# Altium footprint library PCB.PcbLib: 23 footprints (part 2 of 2)
Each footprint in its own frame and in the unit in brackets; x right, y up, seen from the top. Pads: shape width x height; smd on the part's side, far side on the other; paste and mask are expansions set on the pad; w line width, h text height; cw(c..) or ccw(c..) is an arc to the next point about the centre after c.
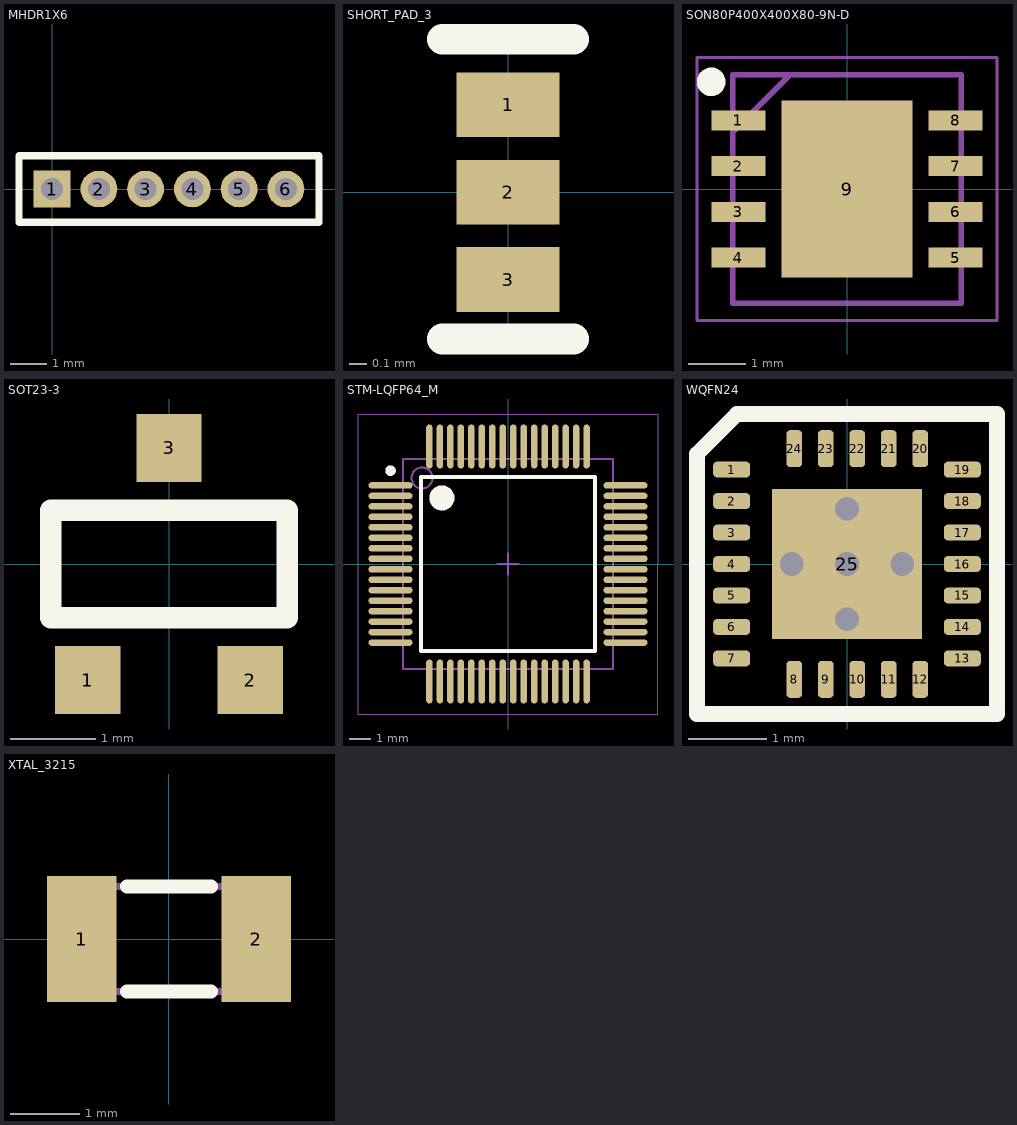
[diagram p1: the footprints below, top view; thin cyan lines are the x and y axes]

## MHDR1X6 [mm]
pads (6):
  rect 1x1 hole 0.6: 1(0,0)
  round 1 hole 0.6: 2(1.27,0) 3(2.54,0) 4(3.81,0) 5(5.08,0) 6(6.35,0)
Top Overlay:
  lines w0.2: -0.9,-0.9 7.25,-0.9 7.25,0.9 -0.9,0.9 -0.9,-0.9

## SHORT_PAD_3 [mm]
pads (3):
  rect 0.6x0.375 smd mask+0: 1(0,0.508) 2(0,0)
  rect 0.6x0.377 smd mask+0: 3(0,-0.508)
Top Overlay:
  lines w0.178: -0.381,-0.853 0.381,-0.853 ; -0.381,0.889 0.381,0.889

## SON80P400X400X80-9N-D [mm]
pads (9):
  rect 0.95x0.35 smd: 1(-1.9,1.2) 2(-1.9,0.4) 3(-1.9,-0.4) 4(-1.9,-1.2) 5(1.9,-1.2) 6(1.9,-0.4) 7(1.9,0.4) 8(1.9,1.2)
  rect 2.3x3.1 smd: 9(0,0)
Top Overlay:
  circle w0.25: c-2.375,1.875 r0.125
Mechanical 13:
  lines w0.1: -2,1 -1,2 ; -2,-2 -2,2 2,2 2,-2 -2,-2
Mechanical 15:
  lines w0.05: -2.625,-2.3 -2.625,2.3 2.625,2.3 2.625,-2.3 -2.625,-2.3
3D body "TLV1117-33IDRJRG4.stp": height 0.8, standoff 0, extent -2.05,-2 2.05,2

## SOT23-3 [mm]
pads (3):
  rect 0.77x0.8 smd: 1(-0.96,-1.37) 2(0.96,-1.37) 3(0,1.37)
Top Overlay:
  lines w0.254: -1.397,-0.635 -1.397,0.635 1.397,0.635 1.397,-0.635 -1.397,-0.635
3D body: height 1, standoff 0, extent -1.397,-0.635 1.397,0.635
3D body: height 0.25, standoff 0, extent -0.381,0.635 0.381,1.397
3D body: height 0.25, standoff 0, extent -1.27,-1.524 -0.635,-0.635
3D body: height 0.25, standoff 0, extent 0.635,-1.524 1.27,-0.635

## STM-LQFP64_M [mm]
pads (64):
  oval 2.1x0.3 smd: 1(-5.6,3.75) 2(-5.6,3.25) 3(-5.6,2.75) 4(-5.6,2.25) 5(-5.6,1.75) 6(-5.6,1.25) 7(-5.6,0.75) 8(-5.6,0.25) 9(-5.6,-0.25) 10(-5.6,-0.75) 11(-5.6,-1.25) 12(-5.6,-1.75) 13(-5.6,-2.25) 14(-5.6,-2.75) 15(-5.6,-3.25) 16(-5.6,-3.75) 33(5.6,-3.75) 34(5.6,-3.25) 35(5.6,-2.75) 36(5.6,-2.25) 37(5.6,-1.75) 38(5.6,-1.25) 39(5.6,-0.75) 40(5.6,-0.25) 41(5.6,0.25) 42(5.6,0.75) 43(5.6,1.25) 44(5.6,1.75) 45(5.6,2.25) 46(5.6,2.75) 47(5.6,3.25) 48(5.6,3.75)
  oval 0.3x2.1 smd: 17(-3.75,-5.6) 18(-3.25,-5.6) 19(-2.75,-5.6) 20(-2.25,-5.6) 21(-1.75,-5.6) 22(-1.25,-5.6) 23(-0.75,-5.6) 24(-0.25,-5.6) 25(0.25,-5.6) 26(0.75,-5.6) 27(1.25,-5.6) 28(1.75,-5.6) 29(2.25,-5.6) 30(2.75,-5.6) 31(3.25,-5.6) 32(3.75,-5.6) 49(3.75,5.6) 50(3.25,5.6) 51(2.75,5.6) 52(2.25,5.6) 53(1.75,5.6) 54(1.25,5.6) 55(0.75,5.6) 56(0.25,5.6) 57(-0.25,5.6) 58(-0.75,5.6) 59(-1.25,5.6) 60(-1.75,5.6) 61(-2.25,5.6) 62(-2.75,5.6) 63(-3.25,5.6) 64(-3.75,5.6)
Top Overlay:
  circle w0.6: c-3.15,3.15 r0.3
  circle w0.25: c-5.6,4.45 r0.125
  lines w0.2: -4.15,-4.15 4.15,-4.15 4.15,4.15 -4.15,4.15 -4.15,-4.15
Mechanical 13:
  circle w0.1: c-4.1,4.1 r0.5
  lines w0.1: -5,-5 5,-5 5,5 -5,5 -5,-5
Mechanical 15:
  lines w0.05: -7.15,-7.15 7.15,-7.15 7.15,7.15 -7.15,7.15 -7.15,-7.15
  lines w0.1: -0.5,0 0.5,0 ; 0,-0.5 0,0.5
3D body: height 1.6, standoff 0.05, extent -5,-5 5,5

## WQFN24 [mm]
pads (25):
  rrect50% 0.47x0.2 smd mask+0.06: 1(-1.465,1.2) 2(-1.465,0.8) 3(-1.465,0.4) 4(-1.465,0) 5(-1.465,-0.4) 6(-1.465,-0.8) 7(-1.465,-1.2) 13(1.465,-1.2) 14(1.465,-0.8) 15(1.465,-0.4) 16(1.465,0) 17(1.465,0.4) 18(1.465,0.8) 19(1.465,1.2)
  rrect50% 0.2x0.47 smd mask+0.06: 8(-0.67,-1.465) 9(-0.27,-1.465) 10(0.13,-1.465) 11(0.53,-1.465) 12(0.93,-1.465) 20(0.93,1.465) 21(0.53,1.465) 22(0.13,1.465) 23(-0.27,1.465) 24(-0.67,1.465)
  rect 1.9x1.9 smd mask+0.06: 25(0,0)
via 0,0 diameter 0.5 hole 0.3
via 0,0.7 diameter 0.5 hole 0.3
via -0.7,0 diameter 0.5 hole 0.3
via 0,-0.7 diameter 0.5 hole 0.3
via 0.7,0 diameter 0.5 hole 0.3
Top Overlay:
  lines w0.203: -1.905,-1.905 1.905,-1.905 1.905,1.905 -1.397,1.905 -1.905,1.397 -1.905,-1.905
3D body: height 0.8, standoff 0, extent -1.397,-1.524 1.397,1.524

## XTAL_3215 [mm]
pads (2):
  rect 1x1.8 smd: 1(-1.25,0) 2(1.25,0)
Top Overlay:
  lines w0.2: -0.6,-0.75 0.6,-0.75 ; -0.6,0.75 0.6,0.75
Top Courtyard:
  lines w0.1: -1.6,-0.55 cw(c-1.6,-0.75) -1.4,-0.75 1.4,-0.75 cw(c1.6,-0.75) 1.6,-0.55 1.6,0.55 cw(c1.6,0.75) 1.4,0.75 -1.4,0.75 cw(c-1.6,0.75) -1.6,0.55 -1.6,-0.55
3D body: height 0.81, standoff 0.15, extent -1.2,-0.6 1.2,0.6
3D body "User Library-Siward_SX3215.step": height 0.81, standoff 0, extent -1.6,-0.75 1.6,0.75